# Altium schematic symbol library Net Tie.SchLib: 1 symbol
Pins are listed as number, name and electrical type; pins without a type are passive.

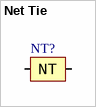
[diagram p0: symbol Net Tie]

## Net Tie
designator NT?  (value not drawn)  (mechanical)
Mechanical, Net Tie, 1mm; Component Type: Test Point; Component Category: Mechanical; ComponentLink1Description: Datasheet; ComponentLink1URL: E:\Altium\Datasheets\Mechanical\Net Ties and How to Use Them.pdf
footprint Net Tie - 1mm
pins: 1, 2
text: NT